# Altium footprint library HMC5883_module.PcbLib: 14 footprints
Each footprint in its own frame and in the unit in brackets; x right, y up, seen from the top. Pads: shape width x height; smd on the part's side, far side on the other; paste and mask are expansions set on the pad; w line width, h text height; cw(c..) or ccw(c..) is an arc to the next point about the centre after c.
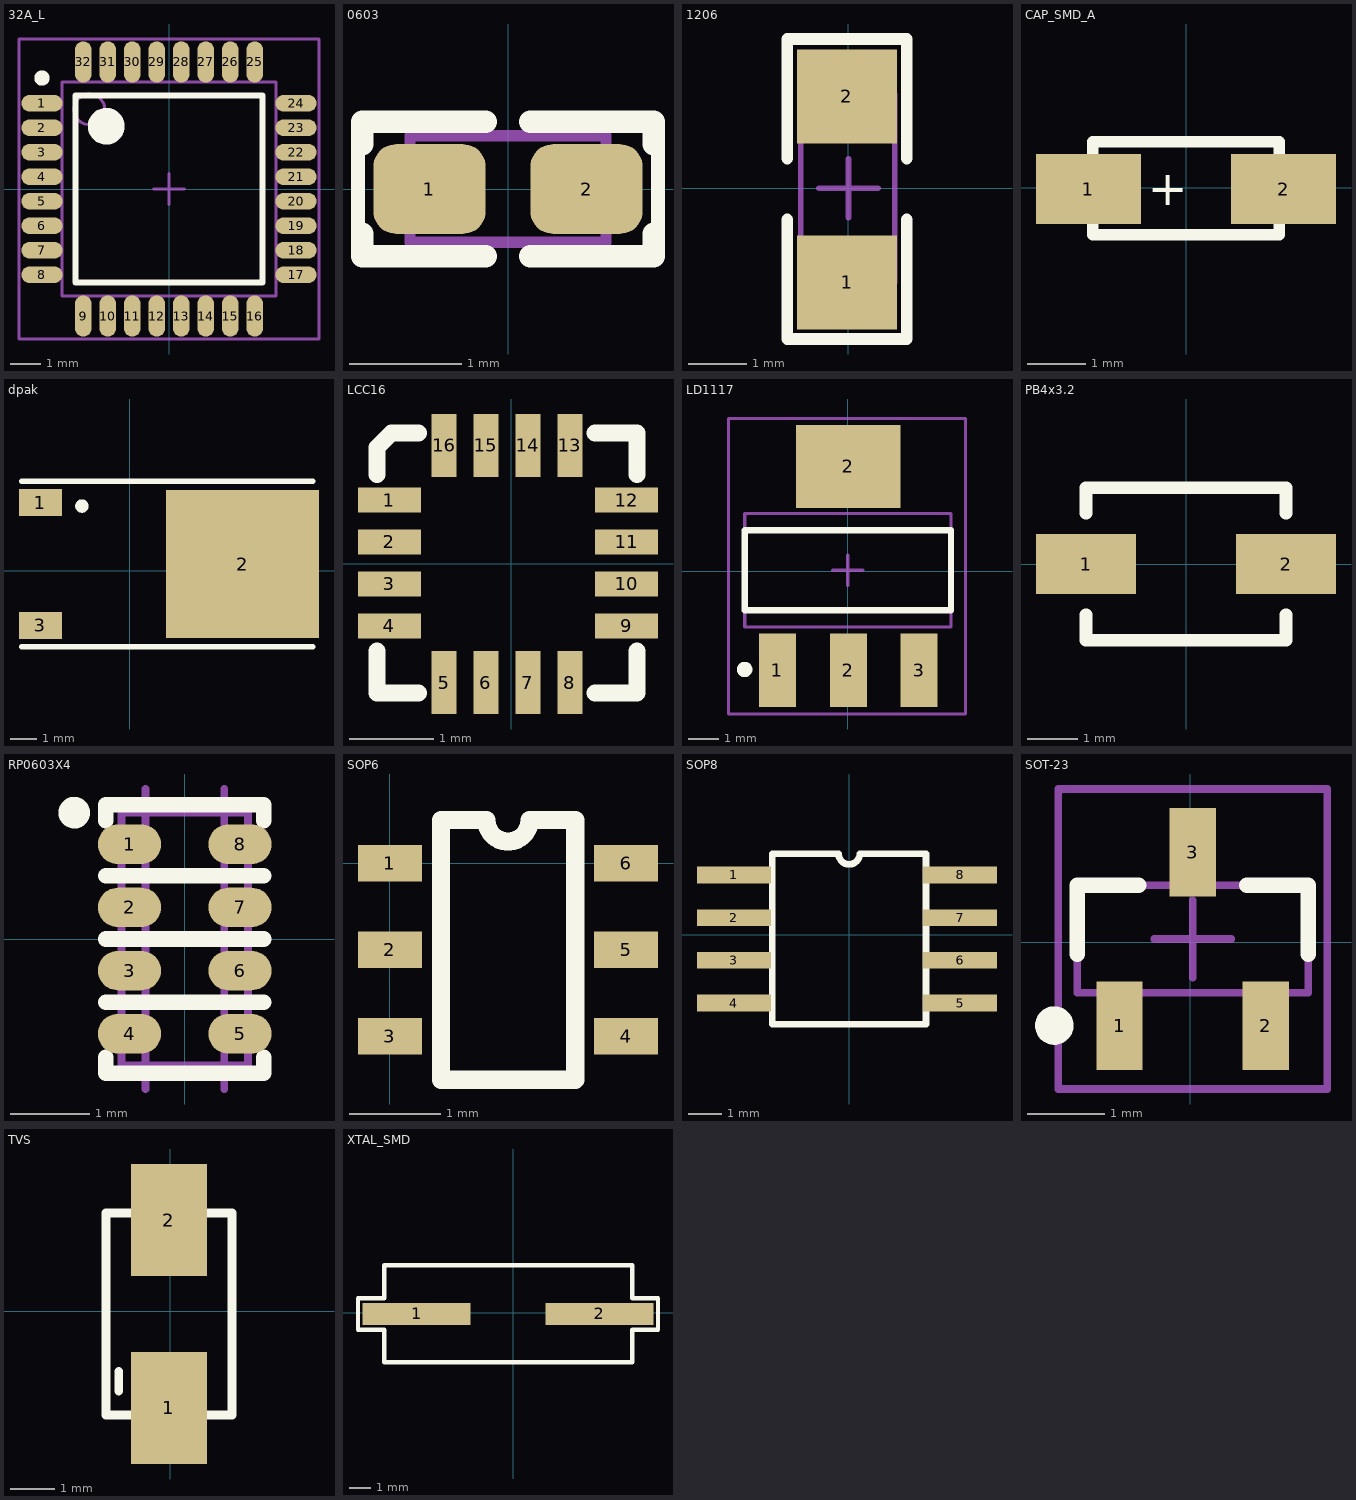
[diagram p0: the footprints below, top view; thin cyan lines are the x and y axes]

## 32A_L [mm] "Thin QFP, 32-Leads, Body 7x7mm, Pitch 0.8mm, IPC High Density"
height 1.2
pads (32):
  oval 1.35x0.55 smd: 1(-4.15,2.8) 2(-4.15,2) 3(-4.15,1.2) 4(-4.15,0.4) 5(-4.15,-0.4) 6(-4.15,-1.2) 7(-4.15,-2) 8(-4.15,-2.8) 17(4.15,-2.8) 18(4.15,-2) 19(4.15,-1.2) 20(4.15,-0.4) 21(4.15,0.4) 22(4.15,1.2) 23(4.15,2) 24(4.15,2.8)
  oval 0.55x1.35 smd: 9(-2.8,-4.15) 10(-2,-4.15) 11(-1.2,-4.15) 12(-0.4,-4.15) 13(0.4,-4.15) 14(1.2,-4.15) 15(2,-4.15) 16(2.8,-4.15) 25(2.8,4.15) 26(2,4.15) 27(1.2,4.15) 28(0.4,4.15) 29(-0.4,4.15) 30(-1.2,4.15) 31(-2,4.15) 32(-2.8,4.15)
Top Overlay:
  circle w0.6: c-2.05,2.05 r0.3
  circle w0.25: c-4.15,3.625 r0.125
  lines w0.2: -3.05,-3.05 3.05,-3.05 3.05,3.05 -3.05,3.05 -3.05,-3.05
Mechanical 13:
  circle w0.1: c-2.6,2.6 r0.5
  lines w0.1: -3.5,-3.5 3.5,-3.5 3.5,3.5 -3.5,3.5 -3.5,-3.5
Mechanical 15:
  lines w0.1: -0.5,0 0.5,0 ; 0,-0.5 0,0.5 ; -4.9,-4.9 4.9,-4.9 4.9,4.9 -4.9,4.9 -4.9,-4.9
3D body: height 1.2, standoff 0, extent -3.5,-3.5 3.5,3.5

## 0603 [mm] "1608, 160X80, 1.6x0.8mm (1.75x0.95mm)"
height 0.6
pads (2):
  rrect50% 1x0.8 smd mask+0.075: 1(-0.7,0) 2(0.7,0)
Top Overlay:
  lines w0.125: -1.337,-0.4 -1.337,0.4 ; 1.337,-0.4 1.337,0.4
  lines w0.2: -1.3,-0.4 -1.3,-0.6 -0.2,-0.6 ; -1.3,0.4 -1.3,0.6 -0.2,0.6 ; 0.2,-0.6 1.3,-0.6 1.3,-0.4 ; 0.2,0.6 1.3,0.6 1.3,0.4
Mechanical 13:
  lines w0.1: -0.875,-0.475 0.875,-0.475 0.875,0.475 -0.875,0.475 -0.875,-0.475
3D body: height 0.6, standoff 0, extent -0.875,-0.475 0.875,0.475

## 1206 [mm]
pads (2):
  rect 1.7x1.6 smd: 1(-0.025,-1.6) 2(-0.025,1.563)
Top Overlay:
  lines w0.2: -1.041,-0.533 -1.041,-2.565 0.991,-2.565 0.991,-0.533 ; -1.041,0.508 -1.041,2.54 0.991,2.54 0.991,0.508
Mechanical 15:
  lines w0.1: -0.5,0 0.5,0 ; 0,-0.5 0,0.5 ; -0.813,-1.6 -0.813,1.6 0.787,1.6 0.787,-1.6 -0.813,-1.6
3D body: height 1.1, standoff 0, extent -0.813,1.422 0.787,1.676
3D body: height 1.1, standoff 0, extent -0.813,-1.676 0.787,-1.422
3D body: height 1.1, standoff 0, extent -0.813,-1.422 0.787,1.422

## CAP_SMD_A [mm]
pads (2):
  rect 1.8x1.2 smd: 1(-1.676,-0.025) 2(1.676,-0.025)
Top Overlay:
  lines w0.2: -1.6,-0.813 -1.6,0.787 1.6,0.787 1.6,-0.813 -1.6,-0.813
  text "+" at -0.66,-0.305 h0.6

## dpak [mm]
pads (3):
  rect 1.6x1 smd: 1(-3.319,2.539) 3(-3.319,-2.031)
  rect 5.7x5.5 smd: 2(4.208,0.254)
Top Overlay:
  circle w0.25: c-1.776,2.413 r0.125
  lines w0.2: -4.019,-2.831 6.831,-2.831 ; -4.019,3.339 6.831,3.339
3D body "DPAK-1.STEP": height 2.44, standoff 0.03, extent -3.699,-3.048 6.239,3.492

## LCC16 [mm] "HMC5883"
pads (16):
  rect 0.75x0.3 smd: 1(-1.455,0.762) 2(-1.455,0.262) 3(-1.455,-0.238) 4(-1.455,-0.738) 9(1.372,-0.738) 10(1.372,-0.238) 11(1.372,0.262) 12(1.372,0.762)
  rect 0.3x0.75 smd: 5(-0.804,-1.414) 6(-0.304,-1.414) 7(0.196,-1.414) 8(0.696,-1.414) 13(0.696,1.412) 14(0.196,1.412) 15(-0.304,1.412) 16(-0.804,1.412)
Top Overlay:
  lines w0.2: -1.604,-1.038 -1.604,-1.538 -1.104,-1.538 ; -1.604,1.062 -1.604,1.387 -1.429,1.562 -1.104,1.562 ; 0.996,-1.538 1.496,-1.538 1.496,-1.038 ; 0.996,1.562 1.496,1.562 1.496,1.062
3D body "User Library-LPCC 16.step": height 0.9, standoff 0, extent -1.552,-1.502 1.448,1.498

## LD1117 [mm]
pads (4):
  rect 1.2x2.4 smd: 1(-2.286,-3.226) 2(0.017,-3.226) 3(2.316,-3.226)
  rect 3.4x2.7 smd: 2(0.017,3.404)
Top Overlay:
  circle w0.25: c-3.351,-3.2 r0.125
  lines w0.2: -3.35,-1.275 -3.35,1.325 3.35,1.325 3.35,-1.275 -3.35,-1.275
Mechanical 13:
  lines w0.1: -3.35,-1.825 -3.35,1.875 3.35,1.875 3.35,-1.825 -3.35,-1.825
Mechanical 15:
  lines w0.1: -0.5,0.025 0.5,0.025 ; 0,-0.475 0,0.525 ; -3.875,-4.648 3.825,-4.648 3.825,4.952 -3.875,4.952 -3.875,-4.648
3D body: height 1.7, standoff 0, extent -3.35,-1.825 3.35,1.875

## PB4x3.2 [mm]
pads (2):
  rect 2x1.2 smd: 1(-2,0) 2(2,0)
Top Overlay:
  lines w0.254: -2,-1.016 -2,-1.524 2,-1.524 2,-1.016 ; -2,1.016 -2,1.524 2,1.524 2,1.016

## RP0603X4 [mm] "RPACK, 0603X4, 160X80X4 1206"
height 0.4
pads (8):
  oval 0.8x0.5 smd: 1(-0.7,1.2) 2(-0.7,0.4) 3(-0.7,-0.4) 4(-0.7,-1.2) 5(0.7,-1.2) 6(0.7,-0.4) 7(0.7,0.4) 8(0.7,1.2)
Top Overlay:
  circle w0.2: c-1.4,1.6 r0.1
  lines w0.2: -1,-1.5 -1,-1.7 1,-1.7 1,-1.5 ; -1,-0.8 1,-0.8 ; -1,0 1,0 ; -1,0.8 1,0.8 ; -1,1.5 -1,1.7 1,1.7 1,1.5
Mechanical 13:
  lines w0.1: -0.5,-1.9 -0.5,1.9 ; 0.5,-1.9 0.5,1.9 ; -0.8,-1.6 0.8,-1.6 0.8,1.6 -0.8,1.6 -0.8,-1.6
  text "0603X4" at -1.3,-2.6 h0.5
  text "4X0402" at -1.3,2.1 h0.5
3D body "User Library-Array-1206-4Way-Var1.STEP": height 0.5, standoff 0, extent -0.8,-1.6 0.8,1.6

## SOP6 [mm]
pads (6):
  rect 0.7x0.4 smd: 1(0,0) 2(0,-0.95) 3(0,-1.9) 4(2.59,-1.9) 5(2.59,-0.95) 6(2.59,0)
Top Overlay:
  lines w0.2: 0.559,-2.375 0.559,0.475 1.057,0.475 ccw(c1.295,0.475) 1.532,0.475 2.032,0.475 2.032,-2.375 0.559,-2.375
3D body "User Library-SOT-6.STEP": height 0.97, standoff 0, extent -0.13,-2.413 2.67,0.487

## SOP8 [mm]
pads (8):
  rect 2.2x0.5 smd: 1(-3.429,1.778) 2(-3.429,0.508) 3(-3.429,-0.762) 4(-3.429,-2.032) 5(3.298,-2.032) 6(3.298,-0.762) 7(3.298,0.508) 8(3.298,1.778)
Top Overlay:
  lines w0.2: -2.286,-2.667 -2.286,2.413 -0.32,2.413 ccw(c-0.002,2.413) 0.315,2.413 2.286,2.413 2.286,-2.667 -2.286,-2.667
3D body "User Library-so8-3.step": height 1.7, standoff 0, extent -3.006,-2.564 2.994,2.336

## SOT-23 [mm]
pads (3):
  rect 0.6x1.15 smd: 1(-0.919,-1.081) 2(0.981,-1.081) 3(0.031,1.169)
Top Overlay:
  circle w0.25: c-1.769,-1.081 r0.125
  lines w0.2: -1.469,-0.156 -1.469,0.744 -0.669,0.744 ; 0.731,0.744 1.531,0.744 1.531,-0.156
Mechanical 13:
  lines w0.1: -1.469,-0.656 -1.469,0.744 1.531,0.744 1.531,-0.656 -1.469,-0.656
Mechanical 15:
  lines w0.1: -0.469,0.044 0.531,0.044 ; 0.031,-0.456 0.031,0.544 ; -1.719,-1.906 -1.719,1.994 1.781,1.994 1.781,-1.906 -1.719,-1.906
3D body "User Library-N-MOS_BSS123_SOT23.STEP": height 1, standoff 0, extent -1.419,-1.181 1.481,1.119

## TVS [mm]
pads (2):
  rect 1.7x2.5 smd: 1(-0.025,-2.159) 2(-0.025,2.032)
Top Overlay:
  lines w0.2: -1.143,-1.778 -1.143,-1.346 ; -1.422,-2.316 1.378,-2.316 1.378,2.184 -1.422,2.184 -1.422,-2.316
3D body: height 2.2, standoff 0, extent -1.499,-2.54 1.421,2.515
3D body: height 2.23, standoff 0, extent -1.502,1.803 1.422,2.007
3D body: height 1.5, standoff 0, extent -1.016,2.515 0.965,2.743
3D body: height 1.5, standoff 0, extent -1.016,-2.756 0.965,-2.527

## XTAL_SMD [mm]
pads (2):
  rect 5x1 smd: 1(-4.496,-0.051) 2(3.988,-0.051)
Top Overlay:
  lines w0.2: -7.214,-0.787 -5.994,-0.787 -5.994,-2.29 5.506,-2.29 5.506,-0.787 6.706,-0.787 6.706,0.686 5.506,0.686 5.506,2.21 -5.994,2.21 -5.994,0.686 -7.214,0.686 -7.214,-0.787